# Altium schematic symbol library Pulse.SchLib: 4 symbols
Pins are listed as number, name and electrical type; pins without a type are passive.

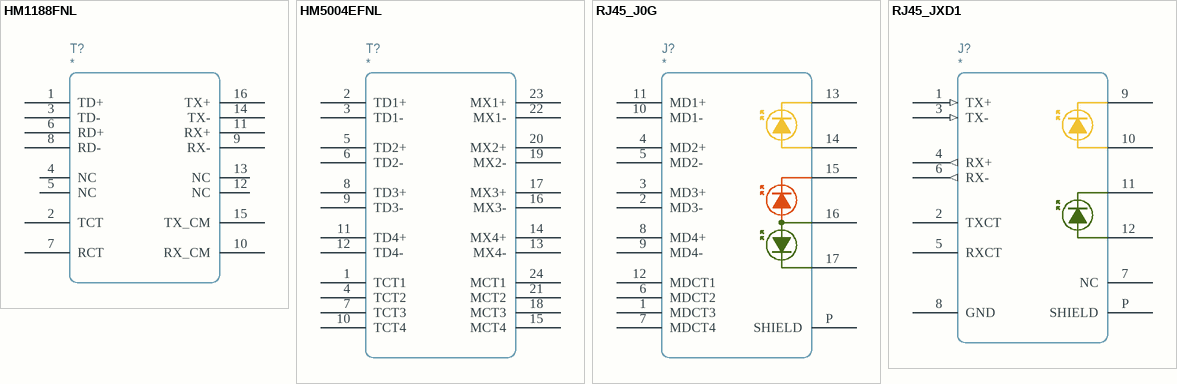
[diagram p0: symbols HM1188FNL to RJ45_JXD1]

## HM1188FNL
designator T?
pins: 1 TD+, 2 TCT, 3 TD-, 4 NC, 5 NC, 6 RD+, 7 RCT, 8 RD-, 9 RX-, 10 RX_CM, 11 RX+, 12 NC, 13 NC, 14 TX-, 15 TX_CM, 16 TX+

## HM5004EFNL
designator T?
pins: 1 TCT1, 2 TD1+, 3 TD1-, 4 TCT2, 5 TD2+, 6 TD2-, 7 TCT3, 8 TD3+, 9 TD3-, 10 TCT4, 11 TD4+, 12 TD4-, 13 MX4-, 14 MX4+, 15 MCT4, 16 MX3-, 17 MX3+, 18 MCT3, 19 MX2-, 20 MX2+, 21 MCT2, 22 MX1-, 23 MX1+, 24 MCT1

## RJ45_J0G
designator J?
pins: 1 MDCT3, 2 MD3-, 3 MD3+, 4 MD2+, 5 MD2-, 6 MDCT2, 7 MDCT4, 8 MD4+, 9 MD4-, 10 MD1-, 11 MD1+, 12 MDCT1, 13 LED1_N, 14 LED1_P, 15 LED2_ON, 16 LED2_COM, 17 LED2_GN, P SHIELD

## RJ45_JXD1
designator J?
pins: 1 TX+ (in), 2 TXCT, 3 TX- (in), 4 RX+ (out), 5 RXCT, 6 RX- (out), 7 NC, 8 GND, 9 LED1_N, 10 LED1_P, 11 LED2_COM, 12 LED2_GN, P SHIELD